# Altium integrated library LimeNet-Micro_SODIMM_adapter_1v2.IntLib: 9 symbols
Pins are listed as number, name and electrical type; pins without a type are passive.

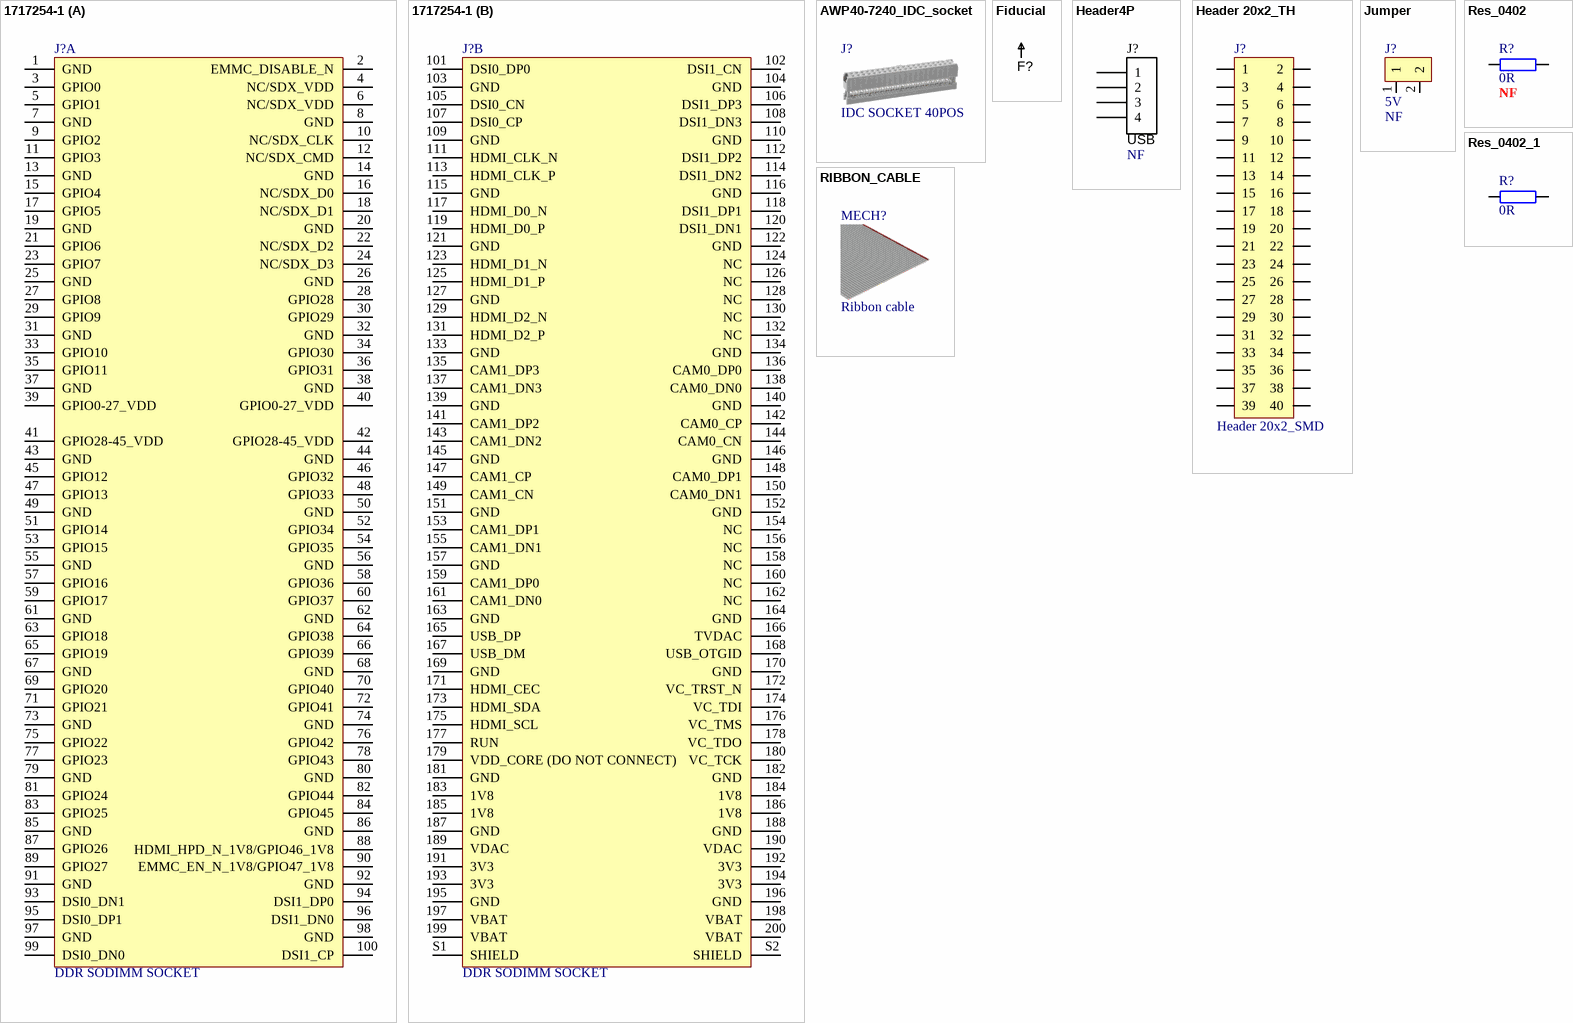
[diagram p0: symbols 1717254-1 to RIBBON_CABLE]

## 1717254-1
designator J?, comment DDR SODIMM SOCKET  (no BOM)
Part Description: 200 Position SODIMM DDR SDRAM Socket Surface Mount, Right Angle; Manufacturer: TE Connectivity AMP Connectors; Manufacturer Part Number 1: 1717254-1; Memory Type: DDR SDRAM; Supplier 1: Digi-Key; RoHS: RoHS Compliant; Category: Connectors, Interconnects; Stock 1: 610; Pricing 1: 1=3.29, 10=3.155, 25=2.8924, 50=2.761 (USD); Packaging: Cut Tape (CT); Part Status: Active; Connector Style: SODIMM; Standards: -; Mounting Type: Surface Mount, Right Angle; Features: Board Guide, Latches; Mounting Feature: Normal, Standard - Top; Contact Finish: Gold; Contact Finish Thickness: Flash; ComponentLink1URL: http://www.te.com/commerce/DocumentDelivery/DDEController?Action=srchrtrv&DocNm=1717254&DocType=Customer+Drawing&DocLang=English; ComponentLink1Description: http://www.te.com/commerce/DocumentDelivery/DDEController?Action=srchrtrv&DocNm=1717254&DocType=Customer+Drawing&DocLang=English; Supplier Part Number 1: A111047CT-ND
footprint SODIMM_200PIN_PCB_pads (SODIMM 200PIN card PCB fingers)
part A pins: 1 GND, 2 EMMC_DISABLE_N, 3 GPIO0, 4 NC/SDX_VDD, 5 GPIO1, 6 NC/SDX_VDD, 7 GND, 8 GND, 9 GPIO2, 10 NC/SDX_CLK, 11 GPIO3, 12 NC/SDX_CMD, 13 GND, 14 GND, 15 GPIO4, 16 NC/SDX_D0, 17 GPIO5, 18 NC/SDX_D1, 19 GND, 20 GND, 21 GPIO6, 22 NC/SDX_D2, 23 GPIO7, 24 NC/SDX_D3, 25 GND, 26 GND, 27 GPIO8, 28 GPIO28, 29 GPIO9, 30 GPIO29, 31 GND, 32 GND, 33 GPIO10, 34 GPIO30, 35 GPIO11, 36 GPIO31, 37 GND, 38 GND, 39 GPIO0-27_VDD, 40 GPIO0-27_VDD, 41 GPIO28-45_VDD, 42 GPIO28-45_VDD, 43 GND, 44 GND, 45 GPIO12, 46 GPIO32, 47 GPIO13, 48 GPIO33, 49 GND, 50 GND, 51 GPIO14, 52 GPIO34, 53 GPIO15, 54 GPIO35, 55 GND, 56 GND, 57 GPIO16, 58 GPIO36, 59 GPIO17, 60 GPIO37, 61 GND, 62 GND, 63 GPIO18, 64 GPIO38, 65 GPIO19, 66 GPIO39, 67 GND, 68 GND, 69 GPIO20, 70 GPIO40, 71 GPIO21, 72 GPIO41, 73 GND, 74 GND, 75 GPIO22, 76 GPIO42, 77 GPIO23, 78 GPIO43, 79 GND, 80 GND, 81 GPIO24, 82 GPIO44, 83 GPIO25, 84 GPIO45, 85 GND, 86 GND, 87 GPIO26, 88 HDMI_HPD_N_1V8/GPIO46_1V8, 89 GPIO27, 90 EMMC_EN_N_1V8/GPIO47_1V8, 91 GND, 92 GND, 93 DSI0_DN1, 94 DSI1_DP0, 95 DSI0_DP1, 96 DSI1_DN0, 97 GND, 98 GND, 99 DSI0_DN0, 100 DSI1_CP
part B pins: 101 DSI0_DP0, 102 DSI1_CN, 103 GND, 104 GND, 105 DSI0_CN, 106 DSI1_DP3, 107 DSI0_CP, 108 DSI1_DN3, 109 GND, 110 GND, 111 HDMI_CLK_N, 112 DSI1_DP2, 113 HDMI_CLK_P, 114 DSI1_DN2, 115 GND, 116 GND, 117 HDMI_D0_N, 118 DSI1_DP1, 119 HDMI_D0_P, 120 DSI1_DN1, 121 GND, 122 GND, 123 HDMI_D1_N, 124 NC, 125 HDMI_D1_P, 126 NC, 127 GND, 128 NC, 129 HDMI_D2_N, 130 NC, 131 HDMI_D2_P, 132 NC, 133 GND, 134 GND, 135 CAM1_DP3, 136 CAM0_DP0, 137 CAM1_DN3, 138 CAM0_DN0, 139 GND, 140 GND, 141 CAM1_DP2, 142 CAM0_CP, 143 CAM1_DN2, 144 CAM0_CN, 145 GND, 146 GND, 147 CAM1_CP, 148 CAM0_DP1, 149 CAM1_CN, 150 CAM0_DN1, 151 GND, 152 GND, 153 CAM1_DP1, 154 NC, 155 CAM1_DN1, 156 NC, 157 GND, 158 NC, 159 CAM1_DP0, 160 NC, 161 CAM1_DN0, 162 NC, 163 GND, 164 GND, 165 USB_DP, 166 TVDAC, 167 USB_DM, 168 USB_OTGID, 169 GND, 170 GND, 171 HDMI_CEC, 172 VC_TRST_N, 173 HDMI_SDA, 174 VC_TDI, 175 HDMI_SCL, 176 VC_TMS, 177 RUN, 178 VC_TDO, 179 VDD_CORE (DO NOT CONNECT), 180 VC_TCK, 181 GND, 182 GND, 183 1V8, 184 1V8, 185 1V8, 186 1V8, 187 GND, 188 GND, 189 VDAC, 190 VDAC, 191 3V3, 192 3V3, 193 3V3, 194 3V3, 195 GND, 196 GND, 197 VBAT, 198 VBAT, 199 VBAT, 200 VBAT, S1 SHIELD, S2 SHIELD

## AWP40-7240_IDC_socket
designator J?, comment IDC SOCKET 40POS  (mechanical)
Manufacturer: Assmann; Manufacturer Part Number 1: AWP-40-7240-T; Part Description: 40 Position Rectangular Socket Connector IDC Gold; Number of Contacts: 40; Max Voltage Rating (AC): 250V; Max Current Rating: 1A; Contact Resistance: 30mR; Gender: Female; Pitch: 2.54mm; Supplier 1: Digi-Key; RoHS: Yes; Stock 1: 14951; Pricing 1: 1 = 0,70000, 10 = 0,65400, 25 = 0,58880, 60 = 0,52317, 120 = 0,50142, 300 = 0,45780, 540 = 0,43600, 1020 = 0,35970, 2520 = 0,32700 (USD); Mount: Cable; Contact Material: Brass,Bronze; Color: Grey; Contact Plating: Gold; Housing Material: PBT; Min Operating Temperature: -55°C; Max Operating Temperature: 105°C; Number of Rows: 2; Termination: IDT; Orientation: Right Angle; Current Rating: 1A; Voltage Rating: 250V; Lead Free: Lead Free; ComponentLink1URL: https://www.verical.com/server-webapp/html/getDatasheet?partID=469423; ComponentLink1Description: https://www.verical.com/server-webapp/html/getDatasheet?partID=469423; ComponentLink2URL: http://www.onlinecomponents.com/productFiles/mf-ASS/awpxx-724x-t-r.pdf; ComponentLink2Description: http://www.onlinecomponents.com/productFiles/mf-ASS/awpxx-724x-t-r.pdf; ComponentLink3URL: http://www.produktinfo.conrad.com/datenblaetter/725000-749999/745430-da-01-ml-PFOSTENVERBNDER__40_POLG__GRAU_de_en.pdf; ComponentLink3Description: http://www.produktinfo.conrad.com/datenblaetter/725000-749999/745430-da-01-ml-PFOSTENVERBNDER__40_POLG__GRAU_de_en.pdf; Supplier Part Number 1: HHKC40H-ND

## Fiducial
designator F?  (value not drawn)
footprint Fiducial
pins: 1

## Header4P
designator J?, comment USB  Assembly Info: NF
Header, 4-pin; Part Description: 4 Positions Header Connector 0.100" (2.54mm) Through Hole Gold; Manufacturer: Wurth Electronics Inc.; Manufacturer Part Number 1: 61300411121; Pitch - Mating: 0.100" (2.54mm); Number of Positions: 4; Number of Positions Loaded: All; Style: Board to Board or Cable; Shrouding: Unshrouded; Contact Length - Mating: 0.236" (6.00mm); Contact Length - Post: 0.118" (3.00mm); Overall Contact Length: 0.454" (11.54mm); Material Flammability Rating: UL94 V-0; Current Rating: 3A; Voltage Rating: 250V; Supplier 1: Digi-Key; Supplier Part Number 1: 732-5317-ND; RoHS: RoHS Compliant; Category: Connectors, Interconnects; Stock 1: 25204; Pricing 1: 1=0.18, 10=0.153, 25=0.1272, 50=0.106, 100=0.096, 1000=0.088 (USD); Packaging: Bulk; Part Status: Active; Connector Type: Header; Contact Type: Male Pin; Number of Rows: 1; Row Spacing - Mating: -; Mounting Type: Through Hole; Termination: Solder; Fastening Type: Push-Pull; Insulation Height: 0.100" (2.54mm); Contact Shape: Square; Contact Finish - Mating: Gold; Contact Finish Thickness - Mating: -; Contact Finish - Post: -; Contact Material: Copper Alloy; Insulation Material: Polybutylene Terephthalate (PBT); Features: -; Operating Temperature: -40°C ~ 125°C; Ingress Protection: -; Insulation Color: Black; Mated Stacking Heights: -; Contact Finish Thickness - Post: -; Applications: -; ComponentLink1URL: http://katalog.we-online.de/em/datasheet/6130xx11121.pdf; ComponentLink1Description: http://katalog.we-online.de/em/datasheet/6130xx11121.pdf
footprint HEADER4X1_TH
pins: 1, 2, 3, 4

## Header 20x2_TH
designator J?, comment Header 20x2_SMD
Manufacturer: Amphenol FCI; Manufacturer Part Number 1: 95157-140LF; Current Rating: 3A; Voltage Rating: 1.5kV; Number of Positions: 40; Insulation Resistance: 5GR; Gender: Male; Connector Type: Male Pin; Pitch: 2.54mm; Contact Post Length: 4.7mm; Row Spacing: 0.1inch; Supplier 1: Digi-Key; Supplier Part Number 1: 609-2231-ND; Stock 1: 3049; Pricing 1: 1=1.5, 10=1.365, 100=1.1703, 500=0.97528, 1000=0.83595, 5000=0.74121, 10000=0.72449 (USD); Mount: Surface Mount; Contact Plating: Gold; Contact Material: Bronze; Color: Black; Housing Color: Black; Housing Material: Thermoplastic; Min Operating Temperature: -65°C; Max Operating Temperature: 125°C; Number of Rows: 2; Contact Gender: Male; Package Quantity: 100; Packaging: Bulk; Termination: SMD/SMT; Number of Contacts: 40; Max Voltage Rating (AC): 1.5kV; Orientation: Straight; Length: 50.8mm; Contact Mating Length: 0.23inch; Depth: 4.83mm; Width: 4.83mm; Radiation Hardening: No; REACH SVHC: No SVHC; Lead Free: Lead Free; Flammability Rating: UL94 V-0; ComponentLink1URL: http://portal.fciconnect.com/Comergent/fci/drawing/95157.pdf?src-supplier=Mouser; ComponentLink1Description: http://portal.fciconnect.com/Comergent/fci/drawing/95157.pdf?src-supplier=Mouser; ComponentLink2URL: http://portal.fciconnect.com/Comergent/fci/drawing/95157.pdf?src-supplier=Avnet; ComponentLink2Description: http://portal.fciconnect.com/Comergent/fci/drawing/95157.pdf?src-supplier=Avnet; ComponentLink3URL: https://cdn.amphenol-icc.com/media/wysiwyg/files/drawing/95157.pdf?src-supplier=Digi-Key; ComponentLink3Description: https://cdn.amphenol-icc.com/media/wysiwyg/files/drawing/95157.pdf?src-supplier=Digi-Key; ComponentLink4URL: http://www.alliedelec.com/m/d/e7f216e54bb1f11c7468e99021090c40.pdf?src-supplier=Allied+Electronics; ComponentLink4Description: http://www.alliedelec.com/m/d/e7f216e54bb1f11c7468e99021090c40.pdf?src-supplier=Allied+Electronics; Part Description: *
footprint Header20x2_SM_v2_flipped
pins: 1, 2, 3, 4, 5, 6, 7, 8, 9, 10, 11, 12, 13, 14, 15, 16, 17, 18, 19, 20, 21, 22, 23, 24, 25, 26, 27, 28, 29, 30, 31, 32, 33, 34, 35, 36, 37, 38, 39, 40

## Jumper
designator J?, comment 5V  Assembly Info: NF
Manufacturer Part Number 1: 961102-6404-AR; Part Description: 2 Positions Header, Unshrouded Connector 0.100" (2.54mm) Through Hole Gold; Manufacturer: 3M; Connector Type: Header, Unshrouded; Supplier 1: Digi-Key; Supplier Part Number 1: 3M9447-ND; Contact Type: Male Pin; Color: Black; Mounting Type: Through Hole; Category: Connectors, Interconnects; Contact Finish: Gold
footprint HDR_1x2
pins: 1, 2

## Res_0402
designator R?, comment 0R  Assembly Info: NF
Manufacturer Part Number 1: CRCW08050000Z0EA; Manufacturer: Vishay Dale; Part Description: RES SMD 0.0 OHM JUMPER 1/8W 0805; Power (Watts): 0.125W, 1/8W; Resistance (Ohms): 0.0; Tolerance: Jumper; Value: 0R; Supplier 1: Digi-Key; Supplier Part Number 1: 541-0.0ATR-ND; Package / Case: 0805 (2012 Metric); Height: 0.020" (0.50mm); Packaging: Tape & Reel (TR); Operating Temperature: -55°C ~ 155°C; Temperature Coefficient: -; RoHS: RoHS Compliant; Size / Dimension: 0.079" L x 0.049" W (2.00mm x 1.25mm); Supplier Device Package: 0805 (2012 Metric); Number of Terminations: 2; Category: Resistors; Features: Automotive AEC-Q200; Composition: Thick Film
footprint RES0805 (Chip Resistor, Body 2.0x1.2mm, 0805, IPC Medium Density)
pins: 1, 2

## Res_0402_1
designator R?, comment 0R
Manufacturer: Yageo; Part Description: RES SMD 0.0OHM JUMPER 1/16W 0402; Manufacturer Part Number 1: RC0402JR-070RL; Supplier 1: Digi-Key; Supplier Part Number 1: 311-0.0JRTR-ND; Composition: Thick Film; Package / Case: 0402 (1005 Metric); Category: Resistors; Value: 0R
footprint RES0402 (Chip Resistor, Body 1.0x0.5mm, EIA 0402, IPC Medium Density)
pins: 1, 2

## RIBBON_CABLE
designator MECH?, comment Ribbon cable  (mechanical)
Manufacturer: 3M; Part Description: Flat Ribbon Cable Gray 40 Conductors 0.050" (1.27mm) Flat Cable 1.00' (304.80mm); Conductor Material: Copper; Wire/Cable Type: Flat,Round; Number of Conductors: 40; Voltage Rating: 300V; Shielding: Unshielded; Impedance: 172R; Wire/Cable Gauge: 28AWG; Pitch: 0.05inch; Cable Length: 91.44m; Cable Pitch: 1.27mm; Supplier 1: Digikey; Manufacturer Part Number 1: 3365/40-300; Stock 1: 20; Pricing 1: 1 = 7,24000, 5 = 5,99200, 10 = 5,52400, 25 = 4,95760, 50 = 4,56720, 100 = 4,19630 (USD); Mount: Cable; Case/Package: 300; Weight: 16.3lb; Color: Grey,Red; Contact Plating: Tin; Insulation Material: Polyvinyl; Min Operating Temperature: -20°C; Max Operating Temperature: 105°C; Packaging: Roll; Length: 300foot; Depth: 50.8mm; ComponentLink1URL: http://multimedia.3m.com/mws/media/22052O/3mtm-round-conductor-flat-cable-050in-3365-series-ts0080.pdf; ComponentLink1Description: http://multimedia.3m.com/mws/media/22052O/3mtm-round-conductor-flat-cable-050in-3365-series-ts0080.pdf; ComponentLink2URL: http://datasheet.octopart.com/3365/40-300-3M-datasheet-155274.pdf; ComponentLink2Description: http://datasheet.octopart.com/3365/40-300-3M-datasheet-155274.pdf; ComponentLink3URL: http://datasheet.octopart.com/3365/40-300-3M-datasheet-8453687.pdf; ComponentLink3Description: http://datasheet.octopart.com/3365/40-300-3M-datasheet-8453687.pdf; Supplier Part Number 1: 3M157807-5-ND